# Altium footprint library PcbLib1.PcbLib: 7 footprints
Each footprint in its own frame and in the unit in brackets; x right, y up, seen from the top. Pads: shape width x height; smd on the part's side, far side on the other; paste and mask are expansions set on the pad; w line width, h text height; cw(c..) or ccw(c..) is an arc to the next point about the centre after c.
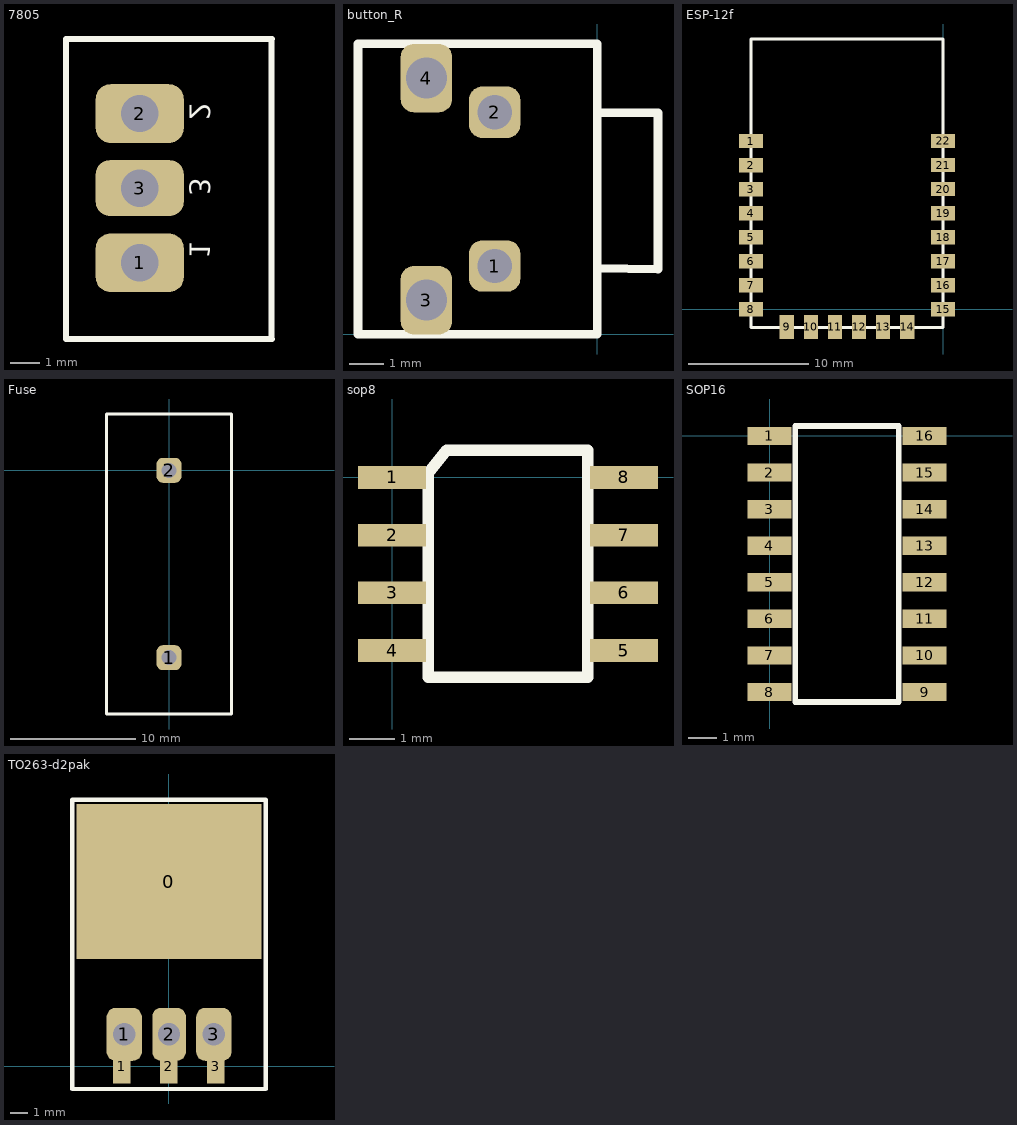
[diagram p0: the footprints below, top view; thin cyan lines are the x and y axes]

## 7805 [mm]
pads (3):
  rrect50% 3x2 hole 1.27: 1(21.15,-62.475) 2(21.15,-57.395)
  rrect50% 3x1.905 hole 1.27: 3(21.15,-59.935)
Top Overlay:
  lines w0.2: 25.637,-65.04 25.637,-54.88 ; 25.65,-65.075 18.643,-65.075 18.643,-54.855 25.65,-54.855
  text "1" at 22.85,-62.348 h0.7
  text "3" at 22.85,-60.189 h0.7
  text "2" at 22.85,-57.624 h0.7

## button_R [mm]
pads (4):
  rrect50% 1.5x1.5 hole 1: 1(-3,2) 2(-3,6.5)
  rrect50% 1.5x2 hole 1.2: 3(-5,1) 4(-5,7.5)
Top Overlay:
  lines w0.254: 0,8.5 0,0 -7,0 -7,8.509 0,8.509 ; 0.001,1.94 1.778,1.905 1.778,6.477 0.001,6.486

## ESP-12f [mm]
pads (22):
  rect 2x1.2 smd: 1(-16,13.995) 2(-16,11.995) 3(-16,9.995) 4(-16,7.995) 5(-16,5.995) 6(-16,3.995) 7(-16,1.995) 8(-16,-0.005) 15(0,0) 16(0,2) 17(0,4) 18(0,6) 19(0,8) 20(0,10) 21(0,12) 22(0,14)
  rect 1.2x2 smd: 9(-13,-1.485) 10(-11,-1.485) 11(-9,-1.485) 12(-7,-1.485) 13(-5,-1.485) 14(-3,-1.485)
Top Overlay:
  lines w0.254: -16,-1.51 0,-1.51 ; -16,-1.49 -16,22.49 0,22.49 ; 0,-1.515 0,22.465

## Fuse [mm]
pads (2):
  rrect50% 2x2 hole 1.2: 1(0,-15) 2(0,0)
Top Overlay:
  lines w0.254: -5,-19.5 -5,4.5 5,4.5 5,-19.5 -5,-19.5

## sop8 [mm]
pads (8):
  rect 1.5x0.5 smd: 1(0,0) 2(0,-1.27) 3(0,-2.54) 4(0,-3.81) 5(5.1,-3.81) 6(5.1,-2.54) 7(5.1,-1.27) 8(5.1,0)
Top Overlay:
  lines w0.254: 0.8,-4.4 0.8,0.1 1.2,0.6 4.3,0.6 4.3,-4.4 0.8,-4.4

## SOP16 [mil]
pads (16):
  rect 60x25 smd: 1(-0.71,0) 2(-0.71,-50) 3(-0.71,-100) 4(-0.71,-150) 5(-0.71,-200) 6(-0.71,-250) 7(-0.71,-300) 8(-0.71,-350) 9(211.49,-350) 10(211.49,-300) 11(211.49,-250) 12(211.49,-200) 13(211.49,-150) 14(211.49,-100) 15(211.49,-50) 16(211.49,0)
Top Overlay:
  lines w8: 34.72,-363.58 176.06,-363.58 176.06,13.58 34.72,13.58 34.72,-363.58

## TO263-d2pak [mm]
pads (7):
  rect 10.5x8.8 smd: 0(0,10.475)
  rect 1x2 smd: 1(-2.66,0) 2(0,0) 3(2.66,0)
  rrect50% 2x3 hole 1.27: 1(-2.525,1.8) 3(2.555,1.8)
  rrect50% 1.905x3 hole 1.27: 2(0.015,1.8)
Top Overlay:
  lines w0.254: -5.475,-1.3 5.5,-1.3 5.5,15.125 -5.475,15.125 -5.475,-1.3